# EAGLE library part 74LVXC3245WM (library Fairchild_By_element14_Batch_1)
TRANSCEIVER WITH 3-STATE OUTPUTS
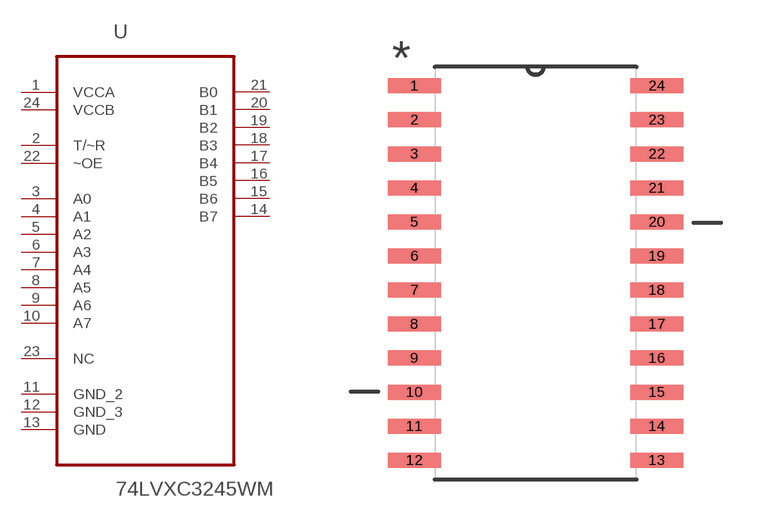
[diagram p118: symbol with the pads of SOIC127P1032X265-24N; footprint SOIC127P1032X265-24N]

Designator prefix U

## 74LVXC3245WM (MPN: 74LVXC3245WM; OC_FARNELL: 1014089; OC_NEWARK: 78K6335; PACKAGE: SOIC-24; SUPPLIER: FAIRCHILD SEMICONDUCTOR)  [SOIC127P1032X265-24N]
1  VCCA  pwr
2  T/~R  in
3  A0  hiz
4  A1  hiz
5  A2  hiz
6  A3  hiz
7  A4  hiz
8  A5  hiz
9  A6  hiz
10  A7  hiz
11  GND_2  pas
12  GND_3  pas
13  GND  pas
14  B7  hiz
15  B6  hiz
16  B5  hiz
17  B4  hiz
18  B3  hiz
19  B2  hiz
20  B1  hiz
21  B0  hiz
22  ~OE  in
23  NC  nc
24  VCCB  pwr

## Footprint SOIC127P1032X265-24N (pad centres in mm)
smd 1.981 x 0.559: 1 -4.521,6.985; 2 -4.521,5.715; 3 -4.521,4.445; 4 -4.521,3.175; 5 -4.521,1.905; 6 -4.521,0.635; 7 -4.521,-0.635; 8 -4.521,-1.905; 9 -4.521,-3.175; 10 -4.521,-4.445; 11 -4.521,-5.715; 12 -4.521,-6.985; 13 4.521,-6.985; 14 4.521,-5.715; 15 4.521,-4.445; 16 4.521,-3.175; 17 4.521,-1.905; 18 4.521,-0.635; 19 4.521,0.635; 20 4.521,1.905; 21 4.521,3.175; 22 4.521,4.445; 23 4.521,5.715; 24 4.521,6.985